# Altium footprint library ESP32S3-MINI1.PcbLib: 1 footprints
Each footprint in its own frame and in the unit in brackets; x right, y up, seen from the top. Pads: shape width x height; smd on the part's side, far side on the other; paste and mask are expansions set on the pad; w line width, h text height; cw(c..) or ccw(c..) is an arc to the next point about the centre after c.
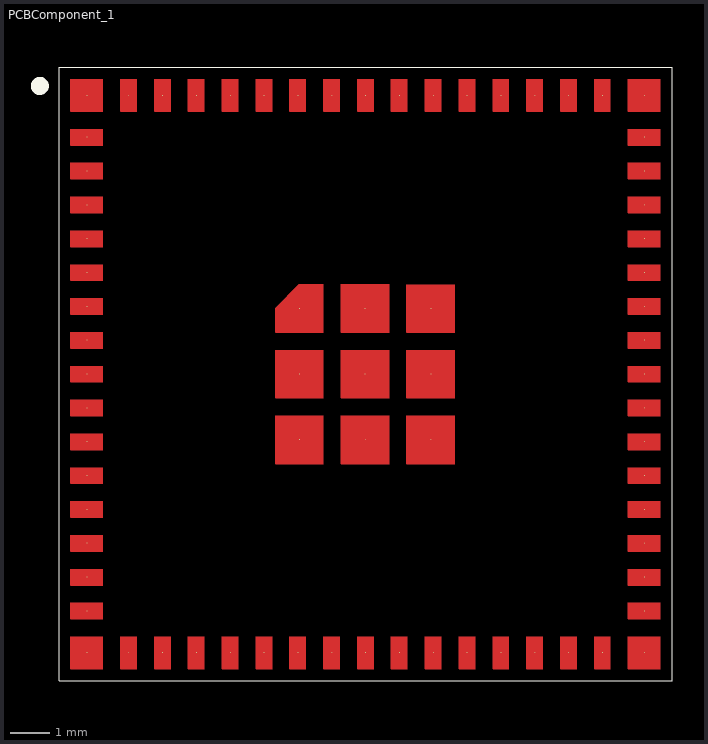
[diagram p0: the footprint, top view; thin cyan lines are the x and y axes]

## PCBComponent_1 [mil]
pads (73):
  round 1 smd: 1(-32610.88,-48967.86) 2(-32610.88,-49001.33) 3(-32610.88,-49034.79) 4(-32610.88,-49068.26) 5(-32610.88,-49101.72) 6(-32610.88,-49135.19) 7(-32610.88,-49168.65) 8(-32610.88,-49202.12) 9(-32610.88,-49235.58) 10(-32610.88,-49269.05) 11(-32610.88,-49302.51) 12(-32610.88,-49335.97) 13(-32610.88,-49369.44) 14(-32610.88,-49402.9) 15(-32610.88,-49436.37) 16(-32569.55,-49477.71) 17(-32536.08,-49477.71) 18(-32502.62,-49477.71) 19(-32469.15,-49477.71) 20(-32435.69,-49477.71) 21(-32402.22,-49477.71) 22(-32368.76,-49477.71) 23(-32335.29,-49477.71) 24(-32301.83,-49477.71) 25(-32268.36,-49477.71) 26(-32234.9,-49477.71) 27(-32201.44,-49477.71) 28(-32167.97,-49477.71) 29(-32134.51,-49477.71) 30(-32101.04,-49477.71) 31(-32059.7,-49436.37) 32(-32059.7,-49402.9) 33(-32059.7,-49369.44) 34(-32059.7,-49335.97) 35(-32059.7,-49302.51) 36(-32059.7,-49269.05) 37(-32059.7,-49235.58) 38(-32059.7,-49202.12) 39(-32059.7,-49168.65) 40(-32059.7,-49135.19) 41(-32059.7,-49101.72) 42(-32059.7,-49068.26) 43(-32059.7,-49034.79) 44(-32059.7,-49001.33) 45(-32059.7,-48967.86) 46(-32101.04,-48926.53) 47(-32134.51,-48926.53) 48(-32167.97,-48926.53) 49(-32201.44,-48926.53) 50(-32234.9,-48926.53) 51(-32268.36,-48926.53) 52(-32301.83,-48926.53) 53(-32335.29,-48926.53) 54(-32368.76,-48926.53) 55(-32402.22,-48926.53) 56(-32435.69,-48926.53) 57(-32469.15,-48926.53) 58(-32502.62,-48926.53) 59(-32536.08,-48926.53) 60(-32569.55,-48926.53) 61(-32400.73,-49267.11) 61(-32400.73,-49202.15) 61(-32400.73,-49137.19) 61(-32335.77,-49267.11) 61(-32335.77,-49202.15) 61(-32335.77,-49137.19) 61(-32270.81,-49267.11) 61(-32270.81,-49202.15) 61(-32270.81,-49137.32) 62(-32610.88,-48926.53) 63(-32610.88,-49477.71) 64(-32059.7,-49477.71) 65(-32059.7,-48926.53)
Top Layer:
  region: -32595.14,-49009.2 -32626.63,-49009.2 -32626.63,-48993.45 -32595.14,-48993.45
  region: -32595.14,-48975.74 -32626.63,-48975.74 -32626.63,-48959.99 -32595.14,-48959.99
  region: -32247.19,-49290.74 -32294.43,-49290.74 -32294.43,-49243.49 -32247.19,-49243.49
  region: -32312.15,-49290.74 -32335.29,-49290.74 -32359.39,-49290.74 -32359.39,-49243.49 -32335.29,-49243.49 -32312.15,-49243.49
  region: -32377.11,-49290.74 -32424.35,-49290.74 -32424.35,-49243.49 -32377.11,-49243.49
  region: -32377.11,-49202.87 -32377.11,-49225.77 -32424.35,-49225.78 -32424.35,-49202.87 -32424.35,-49178.53 -32377.11,-49178.53
  region: -32312.15,-49202.87 -32312.15,-49225.77 -32335.29,-49225.78 -32359.39,-49225.78 -32359.39,-49202.87 -32359.39,-49178.53 -32335.29,-49178.53 -32312.15,-49178.53
  region: -32247.19,-49202.87 -32247.19,-49225.77 -32294.43,-49225.78 -32294.43,-49202.87 -32294.43,-49178.53 -32247.19,-49178.53
  region: -32247.19,-49160.94 -32294.43,-49160.95 -32294.43,-49113.7 -32247.19,-49113.7
  region: -32312.15,-49160.81 -32335.29,-49160.82 -32359.39,-49160.82 -32359.39,-49113.57 -32335.29,-49113.57 -32312.15,-49113.57
  region: -32377.1,-49160.82 -32424.35,-49160.82 -32424.35,-49137.19 -32400.73,-49113.57 -32377.1,-49113.57
  region: -32595.14,-49042.67 -32626.63,-49042.67 -32626.63,-49026.92 -32595.14,-49026.92
  region: -32595.14,-49076.13 -32626.63,-49076.13 -32626.63,-49060.38 -32595.14,-49060.38
  region: -32595.14,-49109.6 -32626.63,-49109.6 -32626.63,-49093.85 -32595.14,-49093.85
  region: -32595.14,-49143.06 -32626.63,-49143.06 -32626.63,-49127.31 -32595.14,-49127.31
  region: -32595.14,-49176.53 -32626.63,-49176.53 -32626.63,-49160.78 -32595.14,-49160.78
  region: -32595.14,-49202.87 -32595.14,-49209.99 -32626.63,-49209.99 -32626.63,-49202.87 -32626.63,-49194.24 -32595.14,-49194.24
  region: -32595.14,-49243.45 -32626.63,-49243.45 -32626.63,-49227.71 -32595.14,-49227.71
  region: -32595.14,-49276.92 -32626.63,-49276.92 -32626.63,-49261.17 -32595.14,-49261.17
  region: -32595.14,-49310.38 -32626.63,-49310.38 -32626.63,-49294.64 -32595.14,-49294.64
  region: -32595.14,-49343.85 -32626.63,-49343.85 -32626.63,-49328.1 -32595.14,-49328.1
  region: -32595.14,-49377.31 -32626.63,-49377.31 -32626.63,-49361.56 -32595.14,-49361.56
  region: -32595.14,-49410.78 -32626.63,-49410.78 -32626.63,-49395.03 -32595.14,-49395.03
  region: -32595.14,-49444.24 -32626.63,-49444.24 -32626.63,-49428.49 -32595.14,-49428.49
  region: -32595.14,-49493.45 -32626.63,-49493.45 -32626.63,-49461.96 -32595.14,-49461.96
  region: -32561.67,-49493.45 -32577.42,-49493.45 -32577.42,-49461.96 -32561.67,-49461.96
  region: -32528.21,-49493.45 -32543.95,-49493.45 -32543.95,-49461.96 -32528.21,-49461.96
  region: -32494.74,-49493.45 -32510.49,-49493.45 -32510.49,-49461.96 -32494.74,-49461.96
  region: -32461.28,-49493.45 -32477.03,-49493.45 -32477.03,-49461.96 -32461.28,-49461.96
  region: -32427.81,-49493.45 -32443.56,-49493.45 -32443.56,-49461.96 -32427.81,-49461.96
  region: -32394.35,-49493.45 -32410.1,-49493.45 -32410.1,-49461.96 -32394.35,-49461.96
  region: -32360.88,-49493.45 -32376.63,-49493.45 -32376.63,-49461.96 -32360.88,-49461.96
  region: -32327.42,-49493.45 -32343.17,-49493.45 -32343.17,-49461.96 -32327.42,-49461.96
  region: -32293.95,-49493.45 -32309.7,-49493.45 -32309.7,-49461.96 -32293.95,-49461.96
  region: -32260.49,-49493.45 -32276.24,-49493.45 -32276.24,-49461.96 -32260.49,-49461.96
  region: -32227.03,-49493.45 -32242.77,-49493.45 -32242.77,-49461.96 -32227.03,-49461.96
  region: -32193.56,-49493.45 -32209.31,-49493.45 -32209.31,-49461.96 -32193.56,-49461.96
  region: -32160.1,-49493.45 -32175.84,-49493.45 -32175.84,-49461.96 -32160.1,-49461.96
  region: -32126.63,-49493.45 -32142.38,-49493.45 -32142.38,-49461.96 -32126.63,-49461.96
  region: -32093.17,-49493.45 -32108.92,-49493.45 -32108.92,-49461.96 -32093.17,-49461.96
  region: -32043.96,-49493.45 -32075.45,-49493.45 -32075.45,-49461.96 -32043.96,-49461.96
  region: -32043.95,-49444.24 -32075.45,-49444.24 -32075.45,-49428.49 -32043.95,-49428.49
  region: -32043.95,-49410.78 -32075.45,-49410.78 -32075.45,-49395.03 -32043.95,-49395.03
  region: -32043.95,-49377.31 -32075.45,-49377.31 -32075.45,-49361.56 -32043.95,-49361.56
  region: -32043.95,-49343.85 -32075.45,-49343.85 -32075.45,-49328.1 -32043.95,-49328.1
  region: -32043.95,-49310.38 -32075.45,-49310.38 -32075.45,-49294.64 -32043.95,-49294.64
  region: -32043.95,-49276.92 -32075.45,-49276.92 -32075.45,-49261.17 -32043.95,-49261.17
  region: -32043.95,-49243.45 -32075.45,-49243.45 -32075.45,-49227.71 -32043.95,-49227.71
  region: -32043.95,-49202.87 -32043.95,-49209.99 -32075.45,-49209.99 -32075.45,-49202.87 -32075.45,-49194.24 -32043.95,-49194.24
  region: -32043.95,-49176.53 -32075.45,-49176.53 -32075.45,-49160.78 -32043.95,-49160.78
  region: -32043.95,-49143.06 -32075.45,-49143.06 -32075.45,-49127.31 -32043.95,-49127.31
  region: -32043.95,-49109.6 -32075.45,-49109.6 -32075.45,-49093.85 -32043.95,-49093.85
  region: -32043.95,-49076.13 -32075.45,-49076.13 -32075.45,-49060.38 -32043.95,-49060.38
  region: -32043.95,-49042.67 -32075.45,-49042.67 -32075.45,-49026.92 -32043.95,-49026.92
  region: -32043.95,-49009.2 -32075.45,-49009.2 -32075.45,-48993.45 -32043.95,-48993.45
  region: -32043.95,-48975.74 -32075.45,-48975.74 -32075.45,-48959.99 -32043.95,-48959.99
  region: -32043.95,-48942.27 -32075.45,-48942.27 -32075.45,-48910.78 -32043.95,-48910.78
  region: -32093.17,-48942.27 -32108.92,-48942.27 -32108.92,-48910.78 -32093.17,-48910.78
  region: -32126.63,-48942.27 -32142.38,-48942.27 -32142.38,-48910.78 -32126.63,-48910.78
  region: -32160.1,-48942.27 -32175.84,-48942.27 -32175.84,-48910.78 -32160.1,-48910.78
  region: -32193.56,-48942.27 -32209.31,-48942.27 -32209.31,-48910.78 -32193.56,-48910.78
  region: -32227.03,-48942.27 -32242.77,-48942.27 -32242.77,-48910.78 -32227.03,-48910.78
  region: -32260.49,-48942.27 -32276.24,-48942.27 -32276.24,-48910.78 -32260.49,-48910.78
  region: -32293.95,-48942.27 -32309.7,-48942.27 -32309.7,-48910.78 -32293.95,-48910.78
  region: -32327.42,-48942.27 -32343.17,-48942.27 -32343.17,-48910.78 -32327.42,-48910.78
  region: -32360.88,-48942.27 -32376.63,-48942.27 -32376.63,-48910.78 -32360.88,-48910.78
  region: -32394.35,-48942.27 -32410.1,-48942.27 -32410.1,-48910.78 -32394.35,-48910.78
  region: -32427.81,-48942.27 -32443.56,-48942.27 -32443.56,-48910.78 -32427.81,-48910.78
  region: -32461.28,-48942.27 -32477.03,-48942.27 -32477.03,-48910.78 -32461.28,-48910.78
  region: -32494.74,-48942.27 -32510.49,-48942.27 -32510.49,-48910.78 -32494.74,-48910.78
  region: -32528.21,-48942.27 -32543.95,-48942.27 -32543.95,-48910.78 -32528.21,-48910.78
  region: -32561.67,-48942.27 -32577.42,-48942.27 -32577.42,-48910.78 -32561.67,-48910.78
  region: -32595.14,-48942.27 -32626.63,-48942.27 -32626.63,-48910.78 -32595.14,-48910.78
  lines w0.5: -32626.63,-49493.45 -32595.14,-49493.45 -32595.14,-49461.96 -32626.63,-49461.96 -32626.63,-49493.45 ; -32626.63,-49444.24 -32626.63,-49428.49 -32595.14,-49428.49 -32595.14,-49444.24 -32626.63,-49444.24 ; -32626.63,-49410.78 -32626.63,-49395.03 -32595.14,-49395.03 -32595.14,-49410.78 -32626.63,-49410.78 ; -32626.63,-49377.31 -32626.63,-49361.56 -32595.14,-49361.56 -32595.14,-49377.31 -32626.63,-49377.31 ; -32626.63,-49343.85 -32626.63,-49328.1 -32595.14,-49328.1 -32595.14,-49343.85 -32626.63,-49343.85 ; -32626.63,-49310.38 -32626.63,-49294.64 -32595.14,-49294.64 -32595.14,-49310.38 -32626.63,-49310.38 ; -32626.63,-49276.92 -32626.63,-49261.17 -32595.14,-49261.17 -32595.14,-49276.92 -32626.63,-49276.92 ; -32626.63,-49243.45 -32626.63,-49227.71 -32595.14,-49227.71 -32595.14,-49243.45 -32626.63,-49243.45 ; -32626.63,-49209.99 -32626.63,-49194.24 -32595.14,-49194.24 -32595.14,-49209.99 -32626.63,-49209.99 ; -32626.63,-49176.53 -32626.63,-49160.78 -32595.14,-49160.78 -32595.14,-49176.53 -32626.63,-49176.53 ; -32626.63,-49143.06 -32626.63,-49127.31 -32595.14,-49127.31 -32595.14,-49143.06 -32626.63,-49143.06 ; -32626.63,-49109.6 -32626.63,-49093.85 -32595.14,-49093.85 -32595.14,-49109.6 -32626.63,-49109.6 ; -32626.63,-49076.13 -32626.63,-49060.38 -32595.14,-49060.38 -32595.14,-49076.13 -32626.63,-49076.13 ; -32626.63,-49042.67 -32626.63,-49026.92 -32595.14,-49026.92 -32595.14,-49042.67 -32626.63,-49042.67 ; -32626.63,-49009.2 -32626.63,-48993.45 -32595.14,-48993.45 -32595.14,-49009.2 -32626.63,-49009.2 ; -32626.63,-48975.74 -32626.63,-48959.99 -32595.14,-48959.99 -32595.14,-48975.74 -32626.63,-48975.74 ; -32626.63,-48942.27 -32595.14,-48942.27 -32595.14,-48910.78 -32626.63,-48910.78 -32626.63,-48942.27 ; -32577.42,-49493.45 -32561.67,-49493.45 -32561.67,-49461.96 -32577.42,-49461.96 -32577.42,-49493.45 ; -32577.42,-48942.27 -32561.67,-48942.27 -32561.67,-48910.78 -32577.42,-48910.78 -32577.42,-48942.27 ; -32543.95,-49493.45 -32528.21,-49493.45 -32528.21,-49461.96 -32543.95,-49461.96 -32543.95,-49493.45 ; -32543.95,-48942.27 -32528.21,-48942.27 -32528.21,-48910.78 -32543.95,-48910.78 -32543.95,-48942.27 ; -32510.49,-49493.45 -32494.74,-49493.45 -32494.74,-49461.96 -32510.49,-49461.96 -32510.49,-49493.45 ; -32510.49,-48942.27 -32494.74,-48942.27 -32494.74,-48910.78 -32510.49,-48910.78 -32510.49,-48942.27 ; -32477.03,-49493.45 -32461.28,-49493.45 -32461.28,-49461.96 -32477.03,-49461.96 -32477.03,-49493.45 ; -32477.03,-48942.27 -32461.28,-48942.27 -32461.28,-48910.78 -32477.03,-48910.78 -32477.03,-48942.27 ; -32443.56,-49493.45 -32427.81,-49493.45 -32427.81,-49461.96 -32443.56,-49461.96 -32443.56,-49493.45 ; -32443.56,-48942.27 -32427.81,-48942.27 -32427.81,-48910.78 -32443.56,-48910.78 -32443.56,-48942.27 ; -32424.35,-49290.74 -32377.11,-49290.74 -32377.11,-49243.49 -32424.35,-49243.49 -32424.35,-49290.74 ; -32424.35,-49225.78 -32377.11,-49225.77 -32377.11,-49178.53 -32424.35,-49178.53 -32424.35,-49225.78 ; -32424.35,-49160.82 -32377.1,-49160.82 -32377.1,-49113.57 -32400.73,-49113.57 -32424.35,-49137.19 -32424.35,-49160.82 ; -32410.1,-49493.45 -32394.35,-49493.45 -32394.35,-49461.96 -32410.1,-49461.96 -32410.1,-49493.45 ; -32410.1,-48942.27 -32394.35,-48942.27 -32394.35,-48910.78 -32410.1,-48910.78 -32410.1,-48942.27 ; -32376.63,-49493.45 -32360.88,-49493.45 -32360.88,-49461.96 -32376.63,-49461.96 -32376.63,-49493.45 ; -32376.63,-48942.27 -32360.88,-48942.27 -32360.88,-48910.78 -32376.63,-48910.78 -32376.63,-48942.27 ; -32359.39,-49290.74 -32312.15,-49290.74 -32312.15,-49243.49 -32359.39,-49243.49 -32359.39,-49290.74 ; -32359.39,-49225.78 -32312.15,-49225.77 -32312.15,-49178.53 -32359.39,-49178.53 -32359.39,-49225.78 ; -32359.39,-49160.82 -32312.15,-49160.81 -32312.15,-49113.57 -32359.39,-49113.57 -32359.39,-49160.82 ; -32343.17,-49493.45 -32327.42,-49493.45 -32327.42,-49461.96 -32343.17,-49461.96 -32343.17,-49493.45 ; -32343.17,-48942.27 -32327.42,-48942.27 -32327.42,-48910.78 -32343.17,-48910.78 -32343.17,-48942.27 ; -32309.7,-49493.45 -32293.95,-49493.45 -32293.95,-49461.96 -32309.7,-49461.96 -32309.7,-49493.45 ; -32309.7,-48942.27 -32293.95,-48942.27 -32293.95,-48910.78 -32309.7,-48910.78 -32309.7,-48942.27 ; -32294.43,-49290.74 -32247.19,-49290.74 -32247.19,-49243.49 -32294.43,-49243.49 -32294.43,-49290.74 ; -32294.43,-49225.78 -32247.19,-49225.77 -32247.19,-49178.53 -32294.43,-49178.53 -32294.43,-49225.78 ; -32294.43,-49160.95 -32247.19,-49160.94 -32247.19,-49113.7 -32294.43,-49113.7 -32294.43,-49160.95 ; -32276.24,-49493.45 -32260.49,-49493.45 -32260.49,-49461.96 -32276.24,-49461.96 -32276.24,-49493.45 ; -32276.24,-48942.27 -32260.49,-48942.27 -32260.49,-48910.78 -32276.24,-48910.78 -32276.24,-48942.27 ; -32242.77,-49493.45 -32227.03,-49493.45 -32227.03,-49461.96 -32242.77,-49461.96 -32242.77,-49493.45 ; -32242.77,-48942.27 -32227.03,-48942.27 -32227.03,-48910.78 -32242.77,-48910.78 -32242.77,-48942.27 ; -32209.31,-49493.45 -32193.56,-49493.45 -32193.56,-49461.96 -32209.31,-49461.96 -32209.31,-49493.45 ; -32209.31,-48942.27 -32193.56,-48942.27 -32193.56,-48910.78 -32209.31,-48910.78 -32209.31,-48942.27 ; -32175.84,-49493.45 -32160.1,-49493.45 -32160.1,-49461.96 -32175.84,-49461.96 -32175.84,-49493.45 ; -32175.84,-48942.27 -32160.1,-48942.27 -32160.1,-48910.78 -32175.84,-48910.78 -32175.84,-48942.27 ; -32142.38,-49493.45 -32126.63,-49493.45 -32126.63,-49461.96 -32142.38,-49461.96 -32142.38,-49493.45 ; -32142.38,-48942.27 -32126.63,-48942.27 -32126.63,-48910.78 -32142.38,-48910.78 -32142.38,-48942.27 ; -32108.92,-49493.45 -32093.17,-49493.45 -32093.17,-49461.96 -32108.92,-49461.96 -32108.92,-49493.45 ; -32108.92,-48942.27 -32093.17,-48942.27 -32093.17,-48910.78 -32108.92,-48910.78 -32108.92,-48942.27 ; -32075.45,-49493.45 -32043.96,-49493.45 -32043.96,-49461.96 -32075.45,-49461.96 -32075.45,-49493.45 ; -32075.45,-49444.24 -32075.45,-49428.49 -32043.95,-49428.49 -32043.95,-49444.24 -32075.45,-49444.24 ; -32075.45,-49410.78 -32075.45,-49395.03 -32043.95,-49395.03 -32043.95,-49410.78 -32075.45,-49410.78 ; -32075.45,-49377.31 -32075.45,-49361.56 -32043.95,-49361.56 -32043.95,-49377.31 -32075.45,-49377.31 ; -32075.45,-49343.85 -32075.45,-49328.1 -32043.95,-49328.1 -32043.95,-49343.85 -32075.45,-49343.85 ; -32075.45,-49310.38 -32075.45,-49294.64 -32043.95,-49294.64 -32043.95,-49310.38 -32075.45,-49310.38 ; -32075.45,-49276.92 -32075.45,-49261.17 -32043.95,-49261.17 -32043.95,-49276.92 -32075.45,-49276.92 ; -32075.45,-49243.45 -32075.45,-49227.71 -32043.95,-49227.71 -32043.95,-49243.45 -32075.45,-49243.45 ; -32075.45,-49209.99 -32075.45,-49194.24 -32043.95,-49194.24 -32043.95,-49209.99 -32075.45,-49209.99 ; -32075.45,-49176.53 -32075.45,-49160.78 -32043.95,-49160.78 -32043.95,-49176.53 -32075.45,-49176.53 ; -32075.45,-49143.06 -32075.45,-49127.31 -32043.95,-49127.31 -32043.95,-49143.06 -32075.45,-49143.06 ; -32075.45,-49109.6 -32075.45,-49093.85 -32043.95,-49093.85 -32043.95,-49109.6 -32075.45,-49109.6 ; -32075.45,-49076.13 -32075.45,-49060.38 -32043.95,-49060.38 -32043.95,-49076.13 -32075.45,-49076.13 ; -32075.45,-49042.67 -32075.45,-49026.92 -32043.95,-49026.92 -32043.95,-49042.67 -32075.45,-49042.67 ; -32075.45,-49009.2 -32075.45,-48993.45 -32043.95,-48993.45 -32043.95,-49009.2 -32075.45,-49009.2 ; -32075.45,-48975.74 -32075.45,-48959.99 -32043.95,-48959.99 -32043.95,-48975.74 -32075.45,-48975.74 ; -32075.45,-48942.27 -32043.95,-48942.27 -32043.95,-48910.78 -32075.45,-48910.78 -32075.45,-48942.27
Top Overlay:
  circle w10: c-32657.48,-48917.32 r3.94
  lines w0.5: -32638.44,-49505.27 -32638.44,-48898.98 -32032.14,-48898.98 -32032.14,-49505.27 -32638.44,-49505.27